# Altium footprint library gf.PcbLib: 13 footprints
Each footprint in its own frame and in the unit in brackets; x right, y up, seen from the top. Pads: shape width x height; smd on the part's side, far side on the other; paste and mask are expansions set on the pad; w line width, h text height; cw(c..) or ccw(c..) is an arc to the next point about the centre after c.
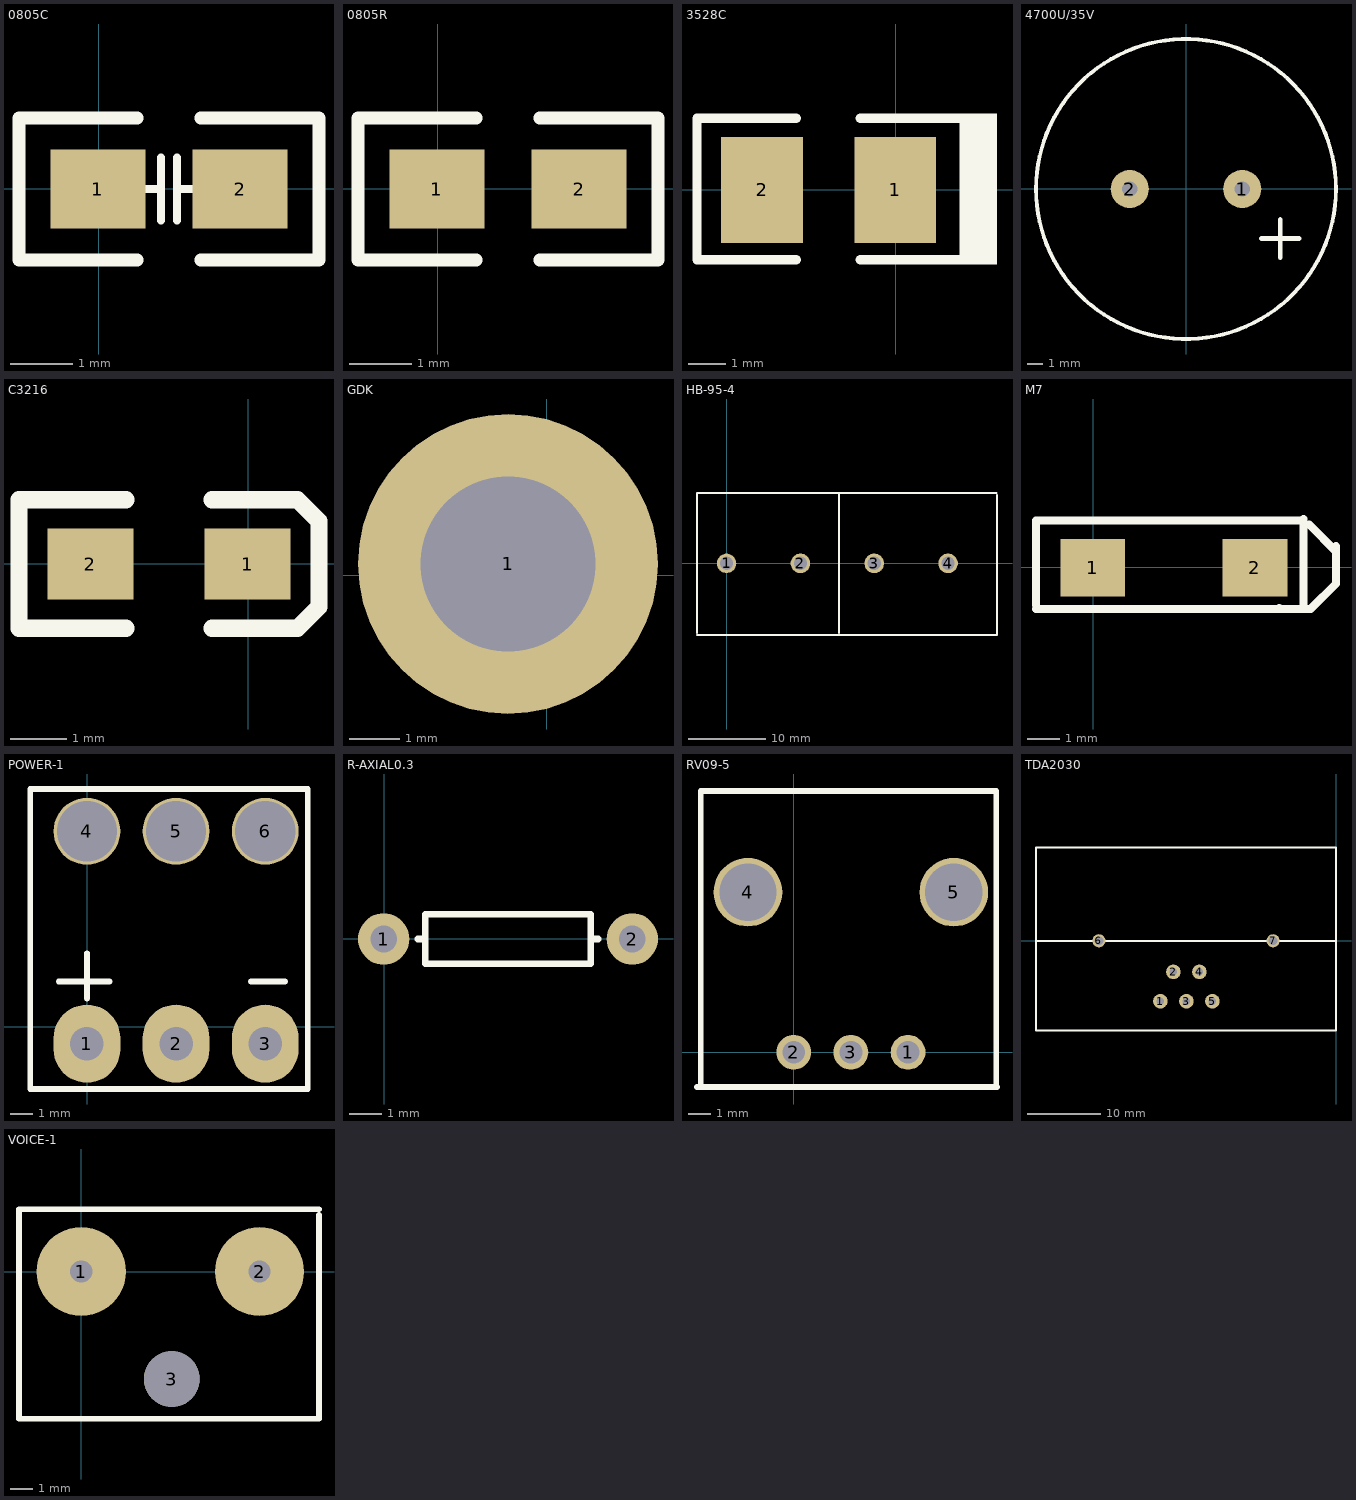
[diagram p0: the footprints below, top view; thin cyan lines are the x and y axes]

## 0805C [mil]
pads (2):
  rect 60x50 smd: 1(-0.48,-0.25) 2(89.52,-0.25)
TopOverlay:
  lines w5: 29.52,-0.25 39.52,-0.25 ; 39.52,-20.25 39.52,19.75 ; 49.52,-20.25 49.52,19.75 ; 49.52,-0.25 59.52,-0.25
  lines w8: 24.52,-45.25 -50.48,-45.25 -50.48,44.75 24.52,44.75 ; 64.52,-45.25 139.52,-45.25 139.52,44.75 64.52,44.75

## 0805R [mil]
pads (2):
  rect 60x50 smd: 1(-0.48,-0.25) 2(89.52,-0.25)
TopOverlay:
  lines w8: 24.52,-45.25 -50.48,-45.25 -50.48,44.75 24.52,44.75 ; 64.52,-45.25 139.52,-45.25 139.52,44.75 64.52,44.75

## 3528C [mm]
pads (2):
  rect 2.2x2.85 smd: 1(-0.012,-0.006) 2(-3.594,-0.006)
TopOverlay:
  rectangle: 1.715,-2.02 2.731,2.052
  lines w0.254: -2.679,-1.886 -5.346,-1.886 -5.346,1.924 -2.679,1.924 ; -0.952,-1.886 1.715,-1.886 ; -0.952,1.924 1.715,1.924

## 4700U/35V [mm]
pads (2):
  round 2.54 hole 1: 1(3.738,-0.006) 2(-3.762,-0.006)
TopOverlay:
  circle w0.254: c-0.012,-0.006 r10
  lines w0.305: 5.008,-3.308 7.548,-3.308 ; 6.278,-4.578 6.278,-2.038

## C3216 [mil]
pads (2):
  rect 60x50 smd: 1(-0.48,-0.25) 2(-110.48,-0.25)
TopOverlay:
  lines w12: -85.48,-45.25 -160.48,-45.25 -160.48,44.75 -85.48,44.75 ; -25.48,-45.25 34.52,-45.25 49.52,-30.25 49.52,29.75 34.52,44.75 -25.48,44.75

## GDK [mm]
pads (1):
  round 6 hole 3.5: 1(-0.774,0.222)

## HB-95-4 [mm]
pads (4):
  round 2.5 hole 1.7: 1(-0.012,-0.006)
  round 2.524 hole 1.7: 2(9.488,-0.006) 3(18.988,-0.006) 4(28.488,-0.006)
TopOverlay:
  lines w0.254: -3.822,-9.26 34.647,-9.26 ; -3.822,-9.006 -3.822,9.074 ; -3.822,9.028 34.702,9.028 ; 14.466,-9.006 14.466,9.074 ; 34.786,-9.26 34.786,8.82

## M7 [mil]
pads (2):
  rect 80x71 smd: 1(-0.48,-0.25) 2(199.52,-0.25)
TopOverlay:
  lines w10: -70.48,-51.43 229.52,-51.43 ; -70.48,-46.51 -70.48,54.87 ; -70.48,57.82 229.52,57.82 ; 199.52,57.82 226.57,57.82 257.59,57.82 ; 229.52,-50.25 229.52,-51.43 ; 259.52,-46.55 259.52,59.75 ; 266.57,52.7 299.52,19.75 ; 268.34,-51.43 229.52,-51.43 ; 279.52,-40.25 269.52,-50.25 299.52,-20.25 299.52,26.05

## POWER-1 [mm]
pads (6):
  oval 3x3.5 hole 1.5: 1(-0.012,-0.768) 2(3.988,-0.768) 3(7.988,-0.768)
  round 3 hole 2.7: 4(-0.012,8.764) 5(3.988,8.764) 6(7.988,8.764)
TopOverlay:
  lines w0.254: -1.282,2.026 1.004,2.026 ; -0.012,1.264 -0.012,3.296 ; 7.354,2.026 8.878,2.026 ; -2.552,-2.8 -2.552,9.646 -2.552,10.662 -1.79,10.662 9.894,10.662 9.894,9.646 9.894,-2.8 -2.552,-2.8

## R-AXIAL0.3 [mil]
pads (2):
  round 62 hole 32: 1(-0.48,-0.25) 2(299.52,-0.25)
TopOverlay:
  lines w8: 40.52,-0.25 49.52,-0.25 ; 258.52,-0.25 249.52,-0.25 ; 249.52,-0.25 249.52,-30.25 49.52,-30.25 49.52,29.75 249.52,29.75 249.52,-0.25

## RV09-5 [mm]
pads (5):
  round 1.524 hole 1: 1(4.988,-0.006) 2(-0.012,-0.006) 3(2.488,-0.006)
  round 3 hole 2.5: 4(-2.012,6.994) 5(6.988,6.994)
TopOverlay:
  lines w0.254: -4.24,-1.53 8.878,-1.53 ; -4.076,-1.53 -4.076,11.424 8.848,11.424 8.848,-1.53

## TDA2030 [mm]
pads (7):
  round 2 hole 1.016: 1(-24.012,-8.256) 2(-22.234,-4.256) 3(-20.456,-8.256) 4(-18.678,-4.256) 5(-16.9,-8.256)
  round 1.8 hole 1.2: 6(-32.412,-0.006) 7(-8.612,-0.006)
TopOverlay:
  lines w0.254: -41.012,-0.006 -0.012,-0.006 ; -41.012,-12.256 -0.012,-12.256 -0.012,12.744 -41.012,12.744 -41.012,-12.256

## VOICE-1 [mm]
pads (3):
  round 4 hole 1: 1(0,0) 2(8,0)
  round 2.5 hole 2.5: 3(4.064,-4.826)
TopOverlay:
  lines w0.254: -2.794,-1.27 -2.794,2.794 10.668,2.794 ; -2.794,-0.762 -2.794,-6.604 10.668,-6.604 10.668,-0.762 ; 10.668,-1.778 10.668,2.54 ; 10.668,2.032 10.668,2.286